# Altium schematic symbol library SCH - CONNECTORS - TENSILITY 54-0017x.SCHLIB: 1 symbol
Pins are listed as number, name and electrical type; pins without a type are passive.

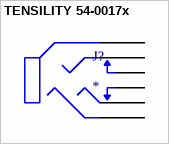
[diagram p0: symbol TENSILITY 54-0017x]

## TENSILITY 54-0017x
designator J?
pins: 1 SLEEVE, 2 RING 2, 3 RING 1, 4 TIP, 5 TIP, 6 TIP